# Altium schematic symbol library R1k15.SchLib: 1 symbol
Pins are listed as number, name and electrical type; pins without a type are passive.

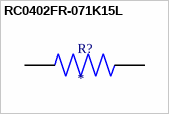
[diagram p0: symbol RC0402FR-071K15L]

## RC0402FR-071K15L
designator R?
1.15 kOhms Â±1% 0.063W, 1/16W Chip Resistor 0402 (1005 Metric) Moisture Resistant Thick Film; MF: Yageo; MP: RC0402FR-071K15L; SnapEDA_Link: https://www.snapeda.com/parts/RC0402FR-071K15L/Yageo/view-part/?ref=snap; Package: 1005 Panasonic Electronic Components; Value: *; Check_prices: https://www.snapeda.com/parts/RC0402FR-071K15L/Yageo/view-part/?ref=eda
footprint RESC1005X40N
pins: 1, 2